# Altium schematic symbol library Conn,Mini-Fit-Jr,Hdr,2x4Pos,Vert,Thru.Schlib: 1 symbol
Pins are listed as number, name and electrical type; pins without a type are passive.

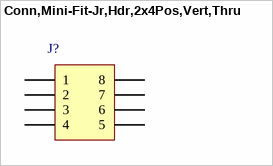
[diagram p0: symbol Conn,Mini-Fit-Jr,Hdr,2x4Pos,Vert,Thru]

## Conn,Mini-Fit-Jr,Hdr,2x4Pos,Vert,Thru
designator J?
pins: 1, 2, 3, 4, 5, 6, 7, 8